# EAGLE library part SIMHOLDER2 (library Bat-Components)
Alternate SIM card socket.
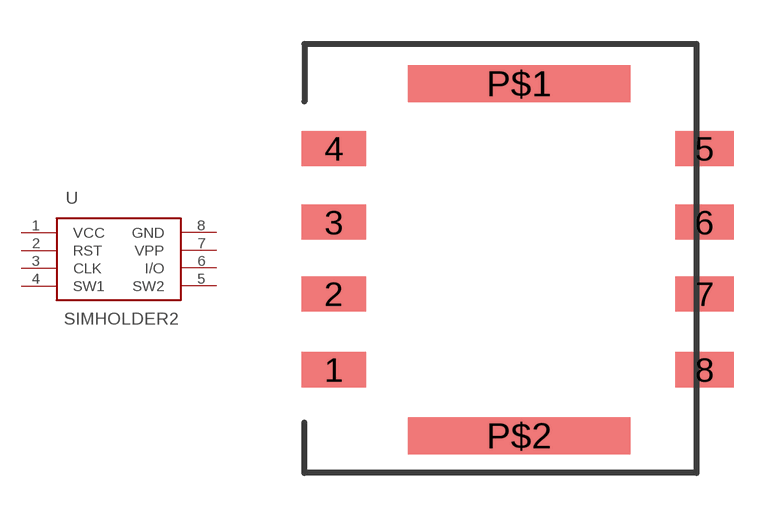
[diagram p7: symbol with the pads of SIMHOLDER2; footprint SIMHOLDER2]

Designator prefix -

## SIMHOLDER2  [SIMHOLDER2]
1  VCC
2  RST
3  CLK
4  SW1
5  SW2
6  I/O
7  VPP
8  GND

## Footprint SIMHOLDER2 (pad centres in mm)
smd 2.2 x 1.2: 1 0,4.81; 2 0,7.41; 3 0,9.86; 4 0,12.39
smd 2 x 1.2: 5 12.7,12.39; 6 12.7,9.86; 7 12.7,7.41; 8 12.7,4.81
smd 7.62 x 1.27: P$1 6.35,14.605; P$2 6.35,2.54